# EAGLE library part DIL18 (library ic-package)
Dual In Line / Socket
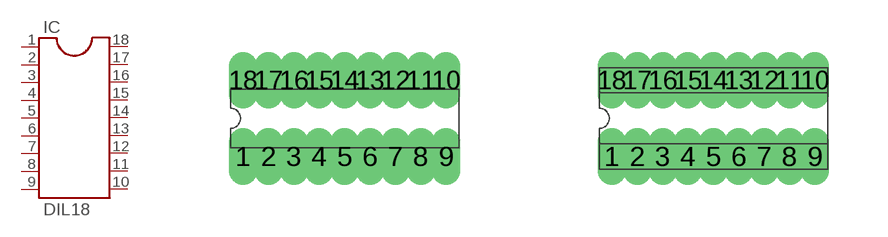
[diagram p8: symbol with the pads of DIL18; footprints DIL18, SOCKET-18]

Designator prefix IC

## DIL18  [DIL18]
1  1  pas
2  2  pas
3  3  pas
4  4  pas
5  5  pas
6  6  pas
7  7  pas
8  8  pas
9  9  pas
10  10  pas
11  11  pas
12  12  pas
13  13  pas
14  14  pas
15  15  pas
16  16  pas
17  17  pas
18  18  pas

## DIL18S  [SOCKET-18]
Pads as for DIL18

## Footprint DIL18 (pad centres in mm)
Dual In Line Package
drill 0.203 long: 1 -2.54,-0.953; 2 -1.905,-0.953; 3 -1.27,-0.953; 4 -0.635,-0.953; 5 0,-0.953; 6 0.635,-0.953; 7 1.27,-0.953; 8 1.905,-0.953; 9 2.54,-0.953; 10 2.54,0.953; 11 1.905,0.953; 12 1.27,0.953; 13 0.635,0.953; 14 0,0.953; 15 -0.635,0.953; 16 -1.27,0.953; 17 -1.905,0.953; 18 -2.54,0.953

## Footprint SOCKET-18 (pad centres in mm)
Dual In Line Socket
drill 0.203 long: 1 -2.54,-0.953; 2 -1.905,-0.953; 3 -1.27,-0.953; 4 -0.635,-0.953; 5 0,-0.953; 6 0.635,-0.953; 7 1.27,-0.953; 8 1.905,-0.953; 9 2.54,-0.953; 10 2.54,0.953; 11 1.905,0.953; 12 1.27,0.953; 13 0.635,0.953; 14 0,0.953; 15 -0.635,0.953; 16 -1.27,0.953; 17 -1.905,0.953; 18 -2.54,0.953